# Altium schematic symbol library fermiumlabs-logo.Schlib: 1 symbol
Pins are listed as number, name and electrical type; pins without a type are passive.

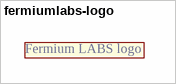
[diagram p0: symbol fermiumlabs-logo]

## fermiumlabs-logo
designator XX?  (value not drawn)  (no BOM)
text: Fermium LABS logo